# Altium integrated library Mezclador RF.IntLib: 1 symbol
Pins are listed as number, name and electrical type; pins without a type are passive.

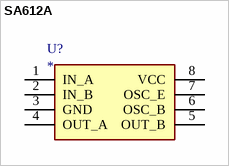
[diagram p0: symbol SA612A]

## SA612A
designator U?
ComponentLink1Description: mouser; ComponentLink1URL: https://www.mouser.es/ProductDetail/NXP-Semiconductors/SA612AD-01112?qs=LOCUfHb8d9sGIxgLq2xCwg%3D%3D; datasheet: https://www.mouser.es/datasheet/2/302/SA612A-1127790.pdf
footprint SOIC127P600X175-8N
pins: 1 IN_A, 2 IN_B, 3 GND, 4 OUT_A, 5 OUT_B, 6 OSC_B, 7 OSC_E, 8 VCC